# Altium schematic symbol library MIC4606-2YML-TR.SchLib: 1 symbol
Pins are listed as number, name and electrical type; pins without a type are passive.

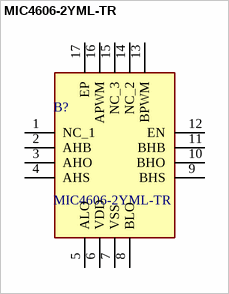
[diagram p0: symbol MIC4606-2YML-TR]

## MIC4606-2YML-TR
designator B?
Gate Drivers 85V Full Bridge FET Driver; Manufacturer_Name: Microchip; Geometry.Height: 0.9mm; Mouser Part Number: 998-MIC4606-2YMLTR; Mouser Price/Stock: https://www.mouser.co.uk/ProductDetail/Microchip-Technology/MIC4606-2YML-TR?qs=U6T8BxXiZAXbBSyJRhixLg%3D%3D; Manufacturer_Part_Number: MIC4606-2YML-TR; Datasheet Link: http://www.microchip.com/mymicrochip/filehandler.aspx?ddocname=en579238
footprint QFN65P400X400X90-17N-D
pins: 1 NC_1, 2 AHB, 3 AHO, 4 AHS, 5 ALO, 6 VDD, 7 VSS, 8 BLO, 9 BHS, 10 BHO, 11 BHB, 12 EN, 13 BPWM, 14 NC_2, 15 NC_3, 16 APWM, 17 EP